# Altium footprint library Seeed-OPL-Connector.PCBLIB: 183 footprints (part 10 of 12)
Each footprint in its own frame and in the unit in brackets; x right, y up, seen from the top. Pads: shape width x height; smd on the part's side, far side on the other; paste and mask are expansions set on the pad; w line width, h text height; cw(c..) or ccw(c..) is an arc to the next point about the centre after c.
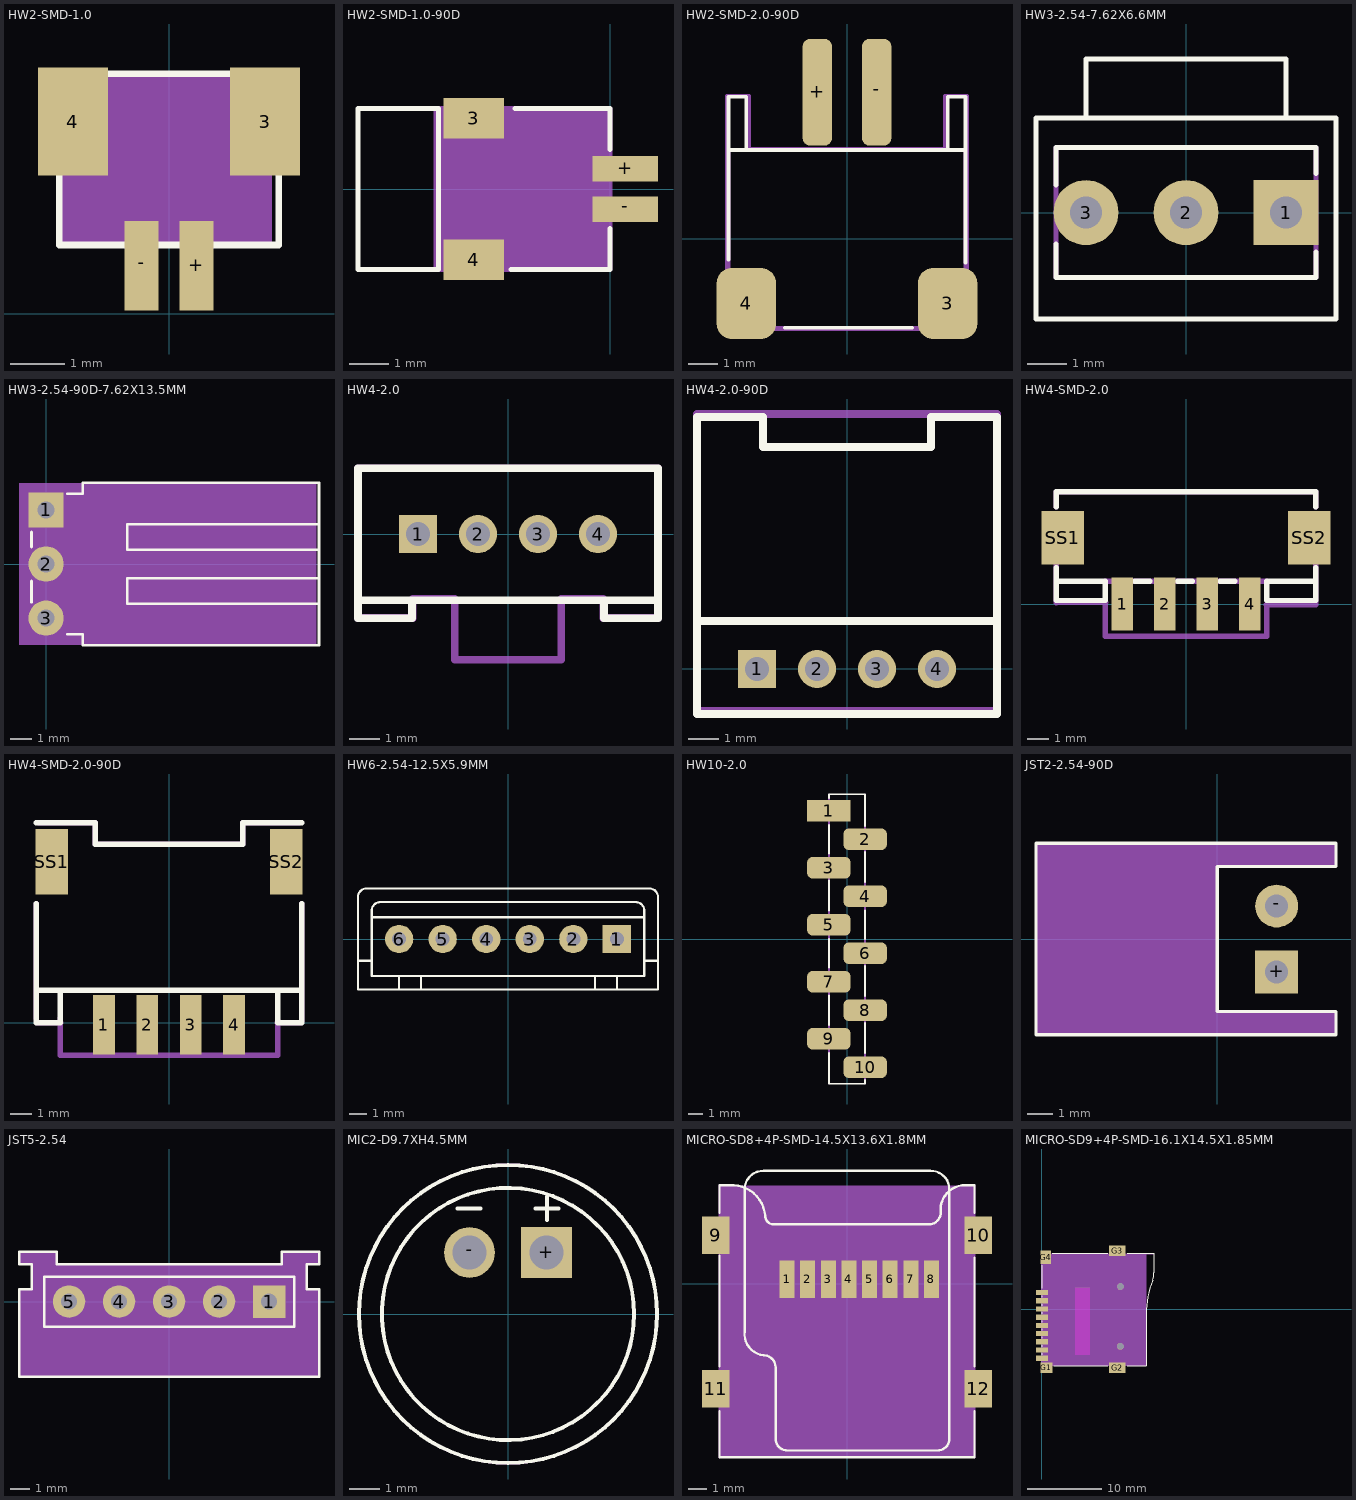
[diagram p9: the footprints below, top view; thin cyan lines are the x and y axes]

## HW2-SMD-1.0 [mil]
pads (4):
  rect 51.18x78.74 smd: 3(70,140) 4(-70,140)
  rect 25x65 smd: +(20,35) -(-20,35)
Top Overlay:
  lines w5: -80,50 80,50 80,175 -80,175 -80,50
Mechanical 27:
  rectangle: -80,50 75,175

## HW2-SMD-1.0-90D [mil]
pads (4):
  rect 60x40 smd: 3(-135,70) 4(-135,-70)
  rect 65x25 smd: +(15,20) -(15,-20)
Top Overlay:
  lines w5: -98.43,-80 0,-80 0,-39.37 ; -94.49,80 0,80 0,39.37 ; -250,-80 -250,80 -170,80 -170,-80 -250,-80
Mechanical 16:
  lines w5: -170,-80 0,-80 0,80 -170,80
Mechanical 27:
  rectangle: -175,-80 0,80

## HW2-SMD-2.0-90D [mm]
pads (4):
  rrect50% 2x2.4 smd: 3(3.4,-2.181) 4(-3.4,-2.181)
  rrect50% 1x3.6 smd: +(-1,4.953) -(1,4.953)
Top Overlay:
  lines w0.127: -4,-0.7 -4,3 ; -2.1,-3 2.2,-3 ; 4,-0.8 4,3 ; -4,3 -3.4,3 ; -4,3 -4,4.8 -3.4,4.8 -3.4,3 ; -3.4,3 3.4,3 ; 3.4,3 4,3 ; 3.4,3 3.4,4.8 4,4.8 4,3
Mechanical 16:
  lines w0.127: -4,3 -4,-3 4,-3 4,3
Mechanical 27:
  lines w0.127: -4.064,-3.048 4.064,-3.048 4.064,4.826 3.302,4.826 3.302,3.048 -3.302,3.048 -3.302,4.826 -4.064,4.826 -4.064,-3.048

## HW3-2.54-7.62X6.6MM [mil]
pads (3):
  rect 65x65 hole 32: 1(100,0)
  round 65 hole 32: 2(0,0) 3(-100,0)
Top Overlay:
  lines w5: -129.92,-31.5 -129.92,-64.96 129.92,-64.96 129.92,-39.37 ; -129.92,27.56 -129.92,64.96 129.92,64.96 129.92,39.37 ; -100,94.49 -150,94.49 -150,-106.3 150,-106.3 150,94.49 100,94.49 ; -100,94.49 100,94.49 ; -100,94.49 -100,153.54 100,153.54 100,94.49
Mechanical 16:
  lines w5: -129.92,-64.96 -129.92,64.96 ; 129.92,-64.96 129.92,64.96

## HW3-2.54-90D-7.62X13.5MM [mil]
pads (3):
  rect 65x65 hole 32: 1(0,100)
  round 65 hole 32: 2(0,0) 3(0,-100)
Top Overlay:
  lines w5: -26.77,-70.87 -26.77,-31.5 ; -26.77,31.5 -26.77,59.06 ; 39.37,-129.92 67.72,-129.92 67.72,-150 504.72,-150 504.72,26.38 ; 39.37,129.92 67.72,129.92 67.72,150 504.72,150 504.72,73.62 ; 504.72,-73.62 150.39,-73.62 150.39,-26.38 504.72,-26.38 ; 504.72,26.38 504.72,73.62 ; 504.72,26.38 150.39,26.38 150.39,73.62 504.72,73.62
Mechanical 27:
  rectangle: -50,-150 500,150

## HW4-2.0 [mil]
pads (4):
  rect 50x50 hole 31.5: 1(-118.11,0)
  round 50 hole 31.5: 2(-39.37,0) 3(39.37,0) 4(118.11,0)
Top Overlay:
  lines w5: -196.85,-39.37 -196.85,39.37
  lines w10: 196.85,-59.06 196.85,59.06 ; -196.85,-86.61 -196.85,86.61 196.85,86.61 196.85,-86.61 ; -196.85,-86.61 -125.98,-86.61 ; -196.85,-86.61 -196.85,-110.24 -125.98,-110.24 -125.98,-86.61 ; -125.98,-86.61 125.98,-86.61 ; 125.98,-86.61 196.85,-86.61 ; 125.98,-86.61 125.98,-110.24 196.85,-110.24 196.85,-86.61
Mechanical 27:
  lines w10: -196.85,-110.24 -196.85,86.61 196.85,86.61 196.85,-110.24 ; -195,-110 -125,-110 -125,-85 -70,-85 -70,-165 70,-165 70,-85 125,-85 125,-110 195,-110

## HW4-2.0-90D [mil]
pads (4):
  rect 50x50 hole 31.5: 1(-118.11,0)
  round 50 hole 31.5: 2(-39.37,0) 3(39.37,0) 4(118.11,0)
Top Overlay:
  lines w5: -196.85,-39.37 -196.85,39.37
  lines w10: -196.85,62.99 -196.85,330.71 -110.24,330.71 -110.24,291.34 110.24,291.34 110.24,330.71 196.85,330.71 196.85,62.99 ; -196.85,62.99 -196.85,-59.06 196.85,-59.06 196.85,62.99 ; -196.85,62.99 196.85,62.99
Mechanical 27:
  lines w10: -196.85,-55.12 196.85,-55.12 196.85,334.65 -196.85,334.65 -196.85,-55.12

## HW4-SMD-2.0 [mm]
pads (6):
  rect 1x2.5 smd: 1(-3,0) 2(-1,0) 3(1,0) 4(3,0)
  rect 2x2.5 smd: SS1(-5.8,3.123) SS2(5.8,3.123)
Top Overlay:
  lines w0.254: -6.1,1.719 -6.1,1.073 ; -6.1,4.573 -6.1,5.273 6.1,5.273 6.1,4.573 ; -2.4,1.073 -1.7,1.073 ; -0.4,1.073 0.3,1.073 ; 1.6,1.073 2.3,1.073 ; 6.1,1.719 6.1,1.073 ; -6.1,1.073 -3.8,1.073 -3.8,0.173 -6.1,0.173 -6.1,1.073 ; 6.1,1.073 3.8,1.073 3.8,0.173 6.1,0.173 6.1,1.073
Mechanical 16:
  lines w0.254: -3.8,1.073 3.8,1.073
Mechanical 27:
  lines w0.254: -6.1,0.073 -6.1,1.973 ; -6.1,4.573 -6.1,5.273 6.1,5.273 6.1,4.573 ; -6.053,0.079 -3.775,0.079 ; -3.8,0.073 -3.8,-1.5 3.8,-1.5 3.8,-0.027 ; 3.775,-0.021 6.053,-0.021 ; 6.1,-0.027 6.1,1.973

## HW4-SMD-2.0-90D [mm]
pads (6):
  rect 1.01x2.74 smd: 1(-3,-0.1) 2(-1,-0.1) 3(1,-0.1) 4(3,-0.1)
  rect 1.5x3 smd: SS1(-5.4,7.4) SS2(5.4,7.4)
Top Overlay:
  lines w0.254: -6.1,5.465 -6.1,1.5 ; -6.1,9.2 -3.4,9.2 -3.4,8.2 3.4,8.2 3.4,9.2 6.1,9.2 ; 6.1,5.465 6.1,1.5 ; -6.1,1.5 -5,1.5 ; -6.1,1.5 -6.1,0 -5,0 -5,1.5 ; -5,1.5 5,1.5 ; 5,1.5 6.1,1.5 ; 5,1.5 5,0 6.1,0 6.1,1.5
Mechanical 27:
  lines w0.254: -6.1,0.2 -6.1,5.465 ; -6.053,0 -4.975,0 ; -6,9.2 -3.4,9.2 -3.4,8.2 3.4,8.2 3.4,9.2 6,9.2 ; -5,0.2 -5,-1.5 5,-1.5 5,0.1 ; 4.975,0 6.053,0 ; 6.1,0.1 6.1,5.465

## HW6-2.54-12.5X5.9MM [mil]
pads (6):
  rect 65x65 hole 32: 1(250,0)
  round 65 hole 32: 2(150,0) 3(50,0) 4(-50,0) 5(-150,0) 6(-250,0)
Top Overlay:
  lines w5: -344.49,-50 -344.49,-116.14 -250,-116.14 ; -344.49,-50 -344.49,96.46 cw(c-324.81,96.45) -324.8,116.14 324.8,116.14 cw(c324.81,96.45) 344.49,96.46 344.49,-50 ; -344.49,-50 -312.99,-50 ; -312.99,-50 -312.99,-84.65 -250,-84.65 ; -312.99,-50 -312.99,50 ; -312.99,50 -312.99,64.96 cw(c-293.31,64.97) -293.31,84.65 293.31,84.65 cw(c293.31,64.97) 312.99,64.96 312.99,50 ; -312.99,50 312.99,50 ; -250,-116.14 -200,-116.14 ; -250,-116.14 -250,-84.65 ; -250,-84.65 -200,-84.65 ; -200,-116.14 200,-116.14 ; -200,-116.14 -200,-84.65 ; -200,-84.65 200,-84.65 ; 200,-116.14 250,-116.14 ; 200,-116.14 200,-84.65 ; 200,-84.65 250,-84.65 ; 250,-116.14 344.49,-116.14 344.49,-50 ; 250,-116.14 250,-84.65 ; 250,-84.65 312.99,-84.65 312.99,-50 ; 312.99,-50 312.99,50 ; 312.99,-50 344.49,-50

## HW10-2.0 [mil]
pads (10):
  rect 120x60 smd: 1(-50,354.33)
  rrect50% 120x60 smd: 2(50,275.59) 3(-50,196.85) 4(50,118.11) 5(-50,39.37) 6(50,-39.37) 7(-50,-118.11) 8(50,-196.85) 9(-50,-275.59) 10(50,-354.33)
Top Overlay:
  lines w5: -50,-314.96 -50,-400 50,-400 50,-389.76 ; -50,-238.19 -50,-155.51 ; -50,-78.74 -50,0 ; -50,78.74 -50,161.42 ; -50,236.22 -50,314.96 ; -50,389.76 -50,400 50,400 50,311.81 ; 50,-314.96 50,-232.28 ; 50,-157.48 50,-74.8 ; 50,0 50,78.74 ; 50,157.48 50,240.16
Mechanical 16:
  lines w5: -50,-400 -50,400 ; 50,-400 50,400

## JST2-2.54-90D [mil]
pads (2):
  rect 65x65 hole 35: +(90,-50)
  round 65 hole 35: -(90,50)
Top Overlay:
  lines w5: -275,-145 180,-145 180,-110 0,-110 0,110 180,110 180,145 -275,145 -275,-145
Mechanical 27:
  rectangle: -275,110 180,145
  rectangle: -275,-145 0,110
  rectangle: 0,-145 180,-110

## JST5-2.54 [mil]
pads (5):
  rect 65x65 hole 32: 1(200,0)
  round 65 hole 32: 2(100,0) 3(0,0) 4(-100,0) 5(-200,0)
Top Overlay:
  lines w5: -300,-150 300,-150 300,25 275,25 275,75 300,75 300,100 225,100 225,75 -225,75 -225,100 -300,100 -300,75 -275,75 -275,25 -300,25 -300,-150 ; -250,-50 250,-50 250,50 -250,50 -250,-50
Mechanical 27:
  rectangle: -300,75 -225,100
  rectangle: 225,75 300,100
  rectangle: -275,25 275,75
  rectangle: -300,-150 300,25

## MIC2-D9.7XH4.5MM [mm]
pads (2):
  rect 1.65x1.65 hole 1.1: +(1.25,2)
  round 1.65 hole 1.1: -(-1.25,2)
Top Overlay:
  circle w0.127: c0,0 r4.85
  circle w0.127: c0,0 r4.103
  lines w0.127: -1.651,3.429 -0.889,3.429 ; 0.889,3.429 1.651,3.429 ; 1.27,3.048 1.27,3.81
Mechanical 27:
  circle w0: c0,0 r4.879

## MICRO-SD8+4P-SMD-14.5X13.6X1.8MM [mil]
pads (12):
  rect 31.5x79.06 smd: 1(-125.92,10) 2(-82.61,10) 3(-39.31,10) 4(4,10) 5(47.31,10) 6(90.61,10) 7(133.92,10) 8(177.23,10)
  rect 57.09x78.74 smd: 9(-275.67,102.36) 10(275.67,102.36) 11(-275.67,-220.41) 12(275.67,-220.41)
Top Overlay:
  lines w5: -267.72,-363.94 267.72,-363.94 ; -267.72,-363.78 -267.72,-267.72 ; -267.72,-173.23 -267.72,59.06 ; -267.72,149.61 -267.72,206.69 ; -267.72,206.91 -246.85,206.91 cw(c-241.35,137.41) -171.85,142.91 ccw(c-153.94,142.91) -153.94,125 171.85,125 ccw(c171.85,150) 196.85,150 cw(c247.73,156) 241.73,206.88 267.72,206.88 ; 267.72,-363.78 267.72,-267.72 ; 267.72,-173.23 267.72,55.12 ; 267.72,149.61 267.72,206.69 ; -215,-100 -215,200 cw(c-176.25,198.75) -175,237.5 175,237.5 cw(c176.25,198.75) 215,200 215,-325 cw(c190,-325) 190,-350 -125,-350 cw(c-125,-325) -150,-325 -150,-175 ccw(c-175,-175) -175,-150 cw(c-170,-105) -215,-100
Mechanical 16:
  lines w5: -267.72,-363.94 -267.72,206.91 ; 267.72,-363.94 267.72,206.88
Mechanical 27:
  rectangle: -267.72,-362.54 267.72,206.91

## MICRO-SD9+4P-SMD-16.1X14.5X1.85MM [mm]
pads (15):
  rect 1.6x0.7 smd: 1(0,2.25) 2(0,1.15) 3(0,0.05) 4(0,-1.05) 5(0,-2.15) 6(0,-3.25) 7(0,-4.35) 8(0,-5.45) 9(0,-6.55)
  round 0.9 hole 0.9: 1(10.5,-4.95) 1(10.5,3.05)
  rect 1.6x1.4 smd: G1(0.6,-7.85)
  rect 2.2x1.4 smd: G2(10.1,-7.85) G3(10.1,7.85)
  rect 1.4x1.8 smd: G4(0.5,6.95)
Top Overlay:
  lines w0.127: 0,-6.1 0,-5.9 ; 0,-5 0,-4.8 ; 0,-3.9 0,-3.7 ; 0,-2.8 0,-2.6 ; 0,-1.7 0,-1.5 ; 0,-0.6 0,-0.4 ; 0,0.5 0,0.7 ; 0,1.6 0,1.8 ; 0,2.8 0,5.9 ; 1.4,7.43 8.8,7.43 ; 1.6,-7.56 8.8,-7.56 ; 11.4,-7.56 13.97,-7.56 ; 11.4,7.43 15,7.43 ; 13.97,-7.557 13.97,-0.623 cw(c26.67,-0.623) 14.802,3.898 ccw(c12.177,4.898) 14.986,4.898 14.986,7.429
Mechanical 8 keep-out:
  rectangle: 4.4,-6.1 6.4,2.9
Mechanical 16:
  lines w0.127: 13.97,-7.557 0,-7.557 0,6.032 1.143,6.032 1.143,7.429 14.986,7.429
Mechanical 27:
  rectangle: 0,-7.493 13.97,7.366